# Altium schematic symbol library XTCLH25M000THJA0P0.SchLib: 1 symbol
Pins are listed as number, name and electrical type; pins without a type are passive.

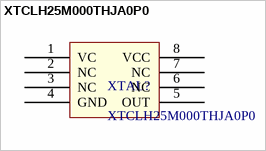
[diagram p0: symbol XTCLH25M000THJA0P0]

## XTCLH25M000THJA0P0
designator XTAL?
TCXO Oscillators 25MHz 5x3.2x1.5mm 0.2ppm max Crystal; Supplier 1: Mouser; Supplier Part Number 1: 81-XTCLH25M000THJA0P
pins: 1 VC, 2 NC, 3 NC, 4 GND, 5 OUT, 6 NC, 7 NC, 8 VCC